# EAGLE library part LTC1859 (library di_ic)
LTC1859 8-Channel, 12-/14-/16-Bit, 100ksps SoftSpan A/D Converters with Shutdown1
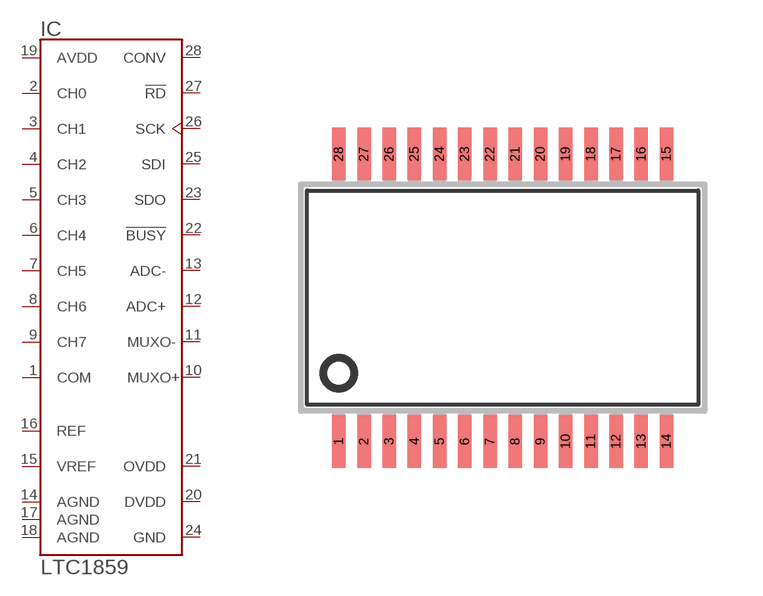
[diagram p19: symbol with the pads of SSOP28; footprint SSOP28]

Designator prefix IC

## LTC1859  [SSOP28]
1  COM  in
2  CH0  in
3  CH1  in
4  CH2  in
5  CH3  in
6  CH4  in
7  CH5  in
8  CH6  in
9  CH7  in
10  MUXOUT+  out
11  MUXOUT-  out
12  ADC+  in
13  ADC-  in
14  AGND  pwr
15  VREF  in
16  REF  in
17  AGND  pwr
18  AGND  pwr
19  AVDD  pwr
20  DVDD  pwr
21  OVDD  pwr
22  !BUSY  out
23  SDO  out
24  GND  pwr
25  SDI  in
26  SCK  in
27  !RD  out
28  CONV  in

## Footprint SSOP28 (pad centres in mm)
Small Shrink Outline Package
smd 0.348 x 1.36: 1 -4.225,-3.706; 2 -3.575,-3.706; 3 -2.925,-3.706; 4 -2.275,-3.706; 5 -1.625,-3.706; 6 -0.975,-3.706; 7 -0.325,-3.706; 8 0.325,-3.706; 9 0.975,-3.706; 10 1.625,-3.706; 11 2.275,-3.706; 12 2.925,-3.706; 13 3.575,-3.706; 14 4.225,-3.706; 15 4.225,3.706; 16 3.575,3.706; 17 2.925,3.706; 18 2.275,3.706; 19 1.625,3.706; 20 0.975,3.706; 21 0.325,3.706; 22 -0.325,3.706; 23 -0.975,3.706; 24 -1.625,3.706; 25 -2.275,3.706; 26 -2.925,3.706; 27 -3.575,3.706; 28 -4.225,3.706